# Altium footprint library Main board for stk  modify202003031.PcbLib: 70 footprints (part 5 of 5)
Each footprint in its own frame and in the unit in brackets; x right, y up, seen from the top. Pads: shape width x height; smd on the part's side, far side on the other; paste and mask are expansions set on the pad; w line width, h text height; cw(c..) or ccw(c..) is an arc to the next point about the centre after c.
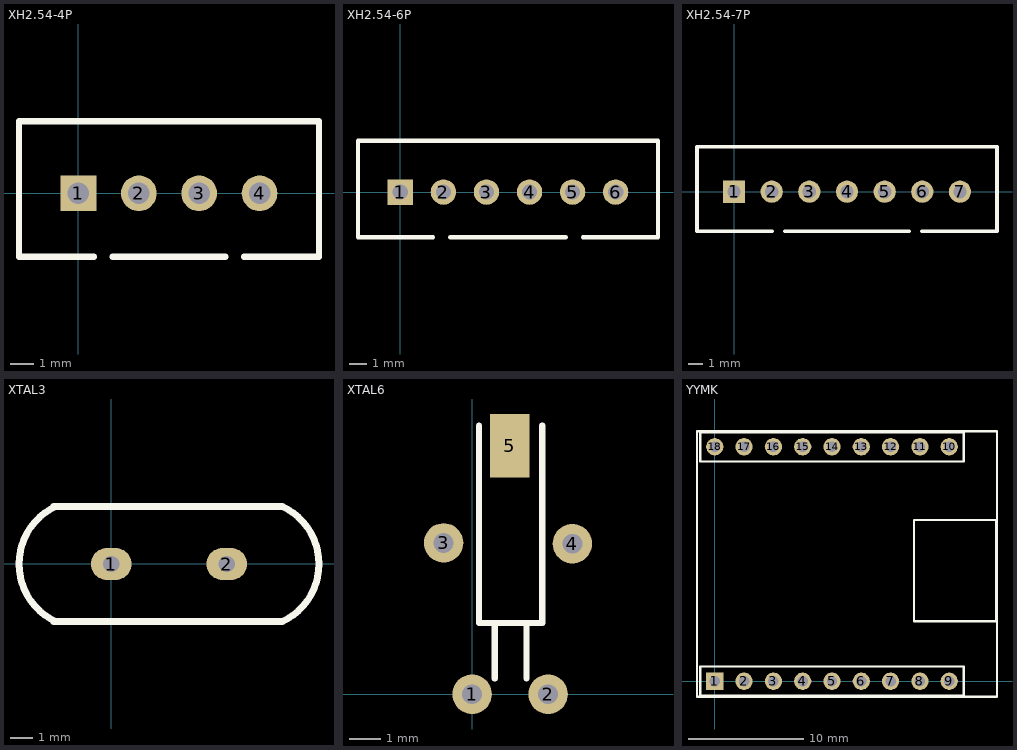
[diagram p4: the footprints below, top view; thin cyan lines are the x and y axes]

## XH2.54-4P [mm]
height 7
pads (4):
  rect 1.5x1.5 hole 0.9: 1(0,0)
  round 1.5 hole 0.9: 2(2.54,0) 3(5.08,0) 4(7.62,0)
Top Overlay:
  lines w0.254: 0.655,-2.67 -2.5,-2.67 -2.5,3.03 10.12,3.03 10.12,-2.67 6.965,-2.67 ; 1.439,-2.67 6.181,-2.67

## XH2.54-6P [mm]
height 7
pads (6):
  rect 1.5x1.5 hole 0.9: 1(0,0)
  round 1.5 hole 0.9: 2(2.54,0) 3(5.08,0) 4(7.62,0) 5(10.16,0) 6(12.7,0)
Top Overlay:
  lines w0.254: 1.925,-2.67 -2.5,-2.67 -2.5,3.03 15.2,3.03 15.2,-2.67 10.775,-2.67 ; 2.938,-2.67 9.762,-2.67

## XH2.54-7P [mm]
height 7
pads (7):
  rect 1.5x1.5 hole 0.9: 1(0,0)
  round 1.5 hole 0.9: 2(2.54,0) 3(5.08,0) 4(7.62,0) 5(10.16,0) 6(12.7,0) 7(15.24,0)
Top Overlay:
  lines w0.254: 2.56,-2.67 -2.5,-2.67 -2.5,3.03 17.74,3.03 17.74,-2.67 12.68,-2.67 ; 3.446,-2.67 11.794,-2.67

## XTAL3 [mm]
pads (2):
  oval 1.8x1.4 hole 0.711: 1(0,0) 2(5.08,0)
Top Overlay:
  lines w0.305: -2.54,-2.54 7.518,-2.54 ; -2.54,2.54 7.518,2.54 ; -2.451,-2.532 cw(c-1.27,0) -2.451,2.532 ; 7.531,-2.532 ccw(c6.35,0) 7.531,2.532

## XTAL6 [mil]
pads (5):
  round 50 hole 25: 1(0,0) 2(96.06,0) 3(-36.09,191.39) 4(126.91,190.39)
  rect 50x80 smd: 5(47.91,314.39)
Top Overlay:
  lines w7.87: 8.69,340 8.69,90 88.69,90 88.69,340 ; 28.69,20 28.69,90 ; 68.69,20 68.69,90

## YYMK [mm] "Connector; Header; 6 Position"
pads (18):
  rect 1.5x1.5 hole 0.9: 1(0,0)
  round 1.5 hole 0.9: 2(2.54,0) 3(5.08,0) 4(7.62,0) 5(10.16,0) 6(12.7,0) 7(15.24,0) 8(17.78,0) 9(20.32,0) 10(20.32,20.32) 11(17.78,20.32) 12(15.24,20.32) 13(12.7,20.32) 14(10.16,20.32) 15(7.62,20.32) 16(5.08,20.32) 17(2.54,20.32) 18(0,20.32)
Top Overlay:
  lines w0.2: -1.54,-1.34 -1.54,21.66 24.46,21.66 24.46,-1.34 -1.54,-1.34 ; -1.27,-1.27 -1.27,1.27 21.59,1.27 21.59,-1.27 -1.27,-1.27 ; -1.27,19.05 21.59,19.05 21.59,21.59 -1.27,21.59 -1.27,19.05 ; 17.272,5.207 24.384,5.207 24.384,13.97 17.272,13.97 17.272,5.207